# Altium schematic symbol library 2019-06-07_15-16-45.SchLib: 2 symbols
Pins are listed as number, name and electrical type; pins without a type are passive.

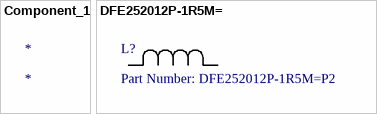
[diagram p0: symbols Component_1 to DFE252012P-1R5M=]

## Component_1
designator *

## DFE252012P-1R5M=
designator L?, comment Part Number: DFE252012P-1R5M=P2
No Description Available; Vendor: Murata; Built_By: EMA_UL_Team; Type: DEV; Manufacturer_Part_Number: DFE252012P-1R5M=P2; Copyright: Copyright (C) 2018 Accelerated Designs. All rights reserved; RefDes: RefDes; Value: Value
footprint DFE252012P-1R0M=
pins: 1, 2